# EAGLE library part ARDUINO_UNO (library mike-temp)
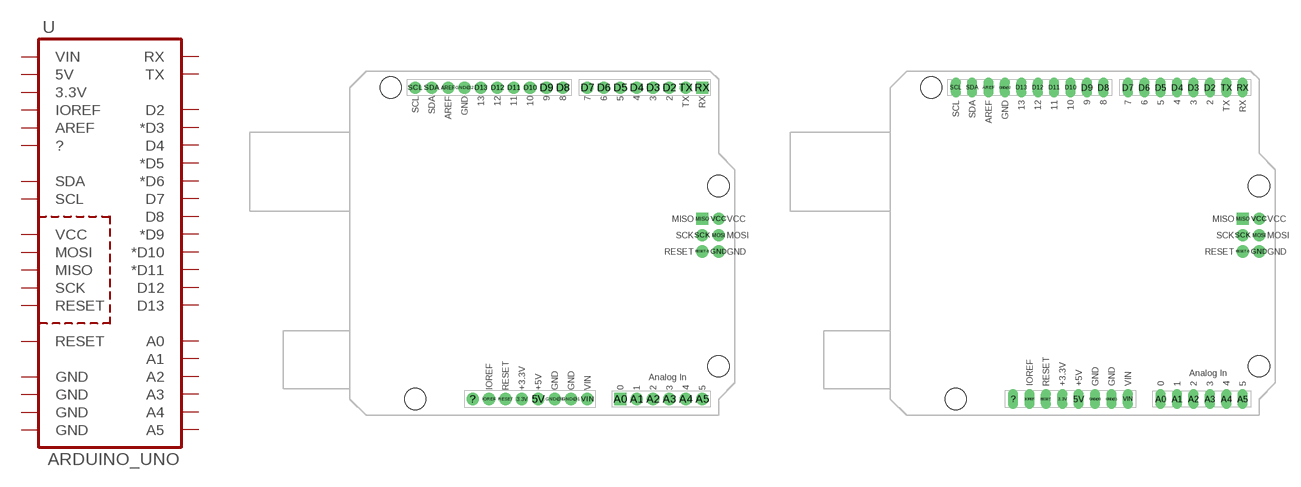
[diagram p39: symbol with the pads of ARDUINO_UNO; footprints ARDUINO_UNO, ARDUINO_UNO_LONGPADS]

Designator prefix U

## ARDUINO_UNO  [ARDUINO_UNO]
3.3V  3.3V
5V  5V
?  ?
A0  A0
A1  A1
A2  A2
A3  A3
A4  A4
A5  A5
AREF  AREF
D2  D2
D3  *D3
D4  D4
D5  *D5
D6  *D6
D7  D7
D8  D8
D9  *D9
D10  *D10
D11  *D11
D12  D12
D13  D13
GND  GND
GND@0  GND
GND@1  GND
GND@2  GND
IOREF  IOREF
MISO  MISO
MOSI  MOSI
RESET  RESET
RESET-6  RESET
RX  RX
SCK  SCK
SCL  SCL
SDA  SDA
TX  TX
VCC  VCC
VIN  VIN

## ARDUINO_UNO_LONGPADS  [ARDUINO_UNO_LONGPADS]
Pads as for ARDUINO_UNO

## ARDUINO_UNO_LONGPADS_NOSILK  [ARDUINO_UNO_LONGPADS_NOSILK]
Pads as for ARDUINO_UNO

## ARDUINO_UNO_NOSILK  [ARDUINO_UNO_NOSILK]
Pads as for ARDUINO_UNO

## Footprint ARDUINO_UNO (pad centres in mm)
drill 1.016 pad 1.88: 3.3V 26.67,2.54; 5V 29.21,2.54; ? 19.05,2.54; A1 44.45,2.54; A2 46.99,2.54; A3 49.53,2.54; A4 52.07,2.54; A5 54.61,2.54; AREF 15.24,50.8; D2 49.53,50.8; D3 46.99,50.8; D4 44.45,50.8; D5 41.91,50.8; D6 39.37,50.8; D7 36.83,50.8; D8 33.02,50.8; D9 30.48,50.8; D10 27.94,50.8; D11 25.4,50.8; D12 22.86,50.8; D13 20.32,50.8; GND 57.15,25.4; GND@0 31.75,2.54; GND@1 34.29,2.54; GND@2 17.78,50.8; IOREF 21.59,2.54; MOSI 57.15,27.94; RESET 24.13,2.54; RESET-6 54.61,25.4; SCK 54.61,27.94; SCL 10.16,50.8; SDA 12.7,50.8; TX 52.07,50.8; VCC 57.15,30.48; VIN 36.83,2.54
drill 1.016 pad 1.88 square: A0 41.91,2.54; MISO 54.61,30.48; RX 54.61,50.8
hole 3.302 at 57.15,7.62
hole 3.302 at 6.35,50.8
hole 3.302 at 10.16,2.54
hole 3.302 at 57.15,35.56

## Footprint ARDUINO_UNO_LONGPADS (pad centres in mm)
drill 1.016 pad 1.422 long: 3.3V 26.67,2.54; 5V 29.21,2.54; ? 19.05,2.54; A0 41.91,2.54; A1 44.45,2.54; A2 46.99,2.54; A3 49.53,2.54; A4 52.07,2.54; A5 54.61,2.54; AREF 15.24,50.8; D2 49.53,50.8; D3 46.99,50.8; D4 44.45,50.8; D5 41.91,50.8; D6 39.37,50.8; D7 36.83,50.8; D8 33.02,50.8; D9 30.48,50.8; D10 27.94,50.8; D11 25.4,50.8; D12 22.86,50.8; D13 20.32,50.8; GND@0 31.75,2.54; GND@1 34.29,2.54; GND@2 17.78,50.8; IOREF 21.59,2.54; RESET 24.13,2.54; RX 54.61,50.8; SCL 10.16,50.8; SDA 12.7,50.8; TX 52.07,50.8; VIN 36.83,2.54
drill 1.016 pad 1.88: GND 57.15,25.4; MOSI 57.15,27.94; RESET-6 54.61,25.4; SCK 54.61,27.94; VCC 57.15,30.48
drill 1.016 pad 1.88 square: MISO 54.61,30.48
hole 3.302 at 57.15,7.62
hole 3.302 at 6.35,50.8
hole 3.302 at 10.16,2.54
hole 3.302 at 57.15,35.56

## Footprint ARDUINO_UNO_LONGPADS_NOSILK (pad centres in mm)
drill 1.016 pad 1.422 long: 3.3V 26.67,2.54; 5V 29.21,2.54; ? 19.05,2.54; A0 41.91,2.54; A1 44.45,2.54; A2 46.99,2.54; A3 49.53,2.54; A4 52.07,2.54; A5 54.61,2.54; AREF 15.24,50.8; D2 49.53,50.8; D3 46.99,50.8; D4 44.45,50.8; D5 41.91,50.8; D6 39.37,50.8; D7 36.83,50.8; D8 33.02,50.8; D9 30.48,50.8; D10 27.94,50.8; D11 25.4,50.8; D12 22.86,50.8; D13 20.32,50.8; GND@0 31.75,2.54; GND@1 34.29,2.54; GND@2 17.78,50.8; IOREF 21.59,2.54; RESET 24.13,2.54; RX 54.61,50.8; SCL 10.16,50.8; SDA 12.7,50.8; TX 52.07,50.8; VIN 36.83,2.54
drill 1.016 pad 1.88: GND 57.15,25.4; MOSI 57.15,27.94; RESET-6 54.61,25.4; SCK 54.61,27.94; VCC 57.15,30.48
drill 1.016 pad 1.88 square: MISO 54.61,30.48
hole 3.302 at 57.15,7.62
hole 3.302 at 6.35,50.8
hole 3.302 at 10.16,2.54
hole 3.302 at 57.15,35.56

## Footprint ARDUINO_UNO_NOSILK (pad centres in mm)
drill 1.016 pad 1.88: 3.3V 26.67,2.54; 5V 29.21,2.54; ? 19.05,2.54; A1 44.45,2.54; A2 46.99,2.54; A3 49.53,2.54; A4 52.07,2.54; A5 54.61,2.54; AREF 15.24,50.8; D2 49.53,50.8; D3 46.99,50.8; D4 44.45,50.8; D5 41.91,50.8; D6 39.37,50.8; D7 36.83,50.8; D8 33.02,50.8; D9 30.48,50.8; D10 27.94,50.8; D11 25.4,50.8; D12 22.86,50.8; D13 20.32,50.8; GND 57.15,25.4; GND@0 31.75,2.54; GND@1 34.29,2.54; GND@2 17.78,50.8; IOREF 21.59,2.54; MOSI 57.15,27.94; RESET 24.13,2.54; RESET-6 54.61,25.4; SCK 54.61,27.94; SCL 10.16,50.8; SDA 12.7,50.8; TX 52.07,50.8; VCC 57.15,30.48; VIN 36.83,2.54
drill 1.016 pad 1.88 square: A0 41.91,2.54; MISO 54.61,30.48; RX 54.61,50.8
hole 3.302 at 57.15,7.62
hole 3.302 at 6.35,50.8
hole 3.302 at 10.16,2.54
hole 3.302 at 57.15,35.56